# EAGLE library part AMIS30663CAN (library khr_lib4)
https://www.onsemi.com/pub/Collateral/AMIS-30663-D.PDF
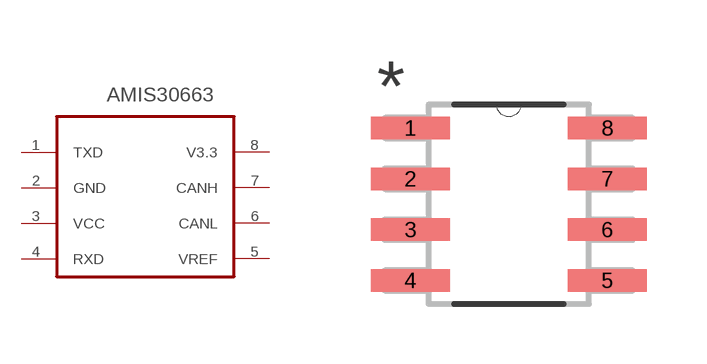
[diagram p0: symbol with the pads of SOIC8; footprint SOIC8]

Designator prefix U

## AMIS30663CAN (MPN: AMIS30663; OC_FARNELL: -; OC_NEWARK: 75C7726; PACKAGE: SOIC-8; SUPPLIER: On Semiconductor)  [SOIC8]
1  TXD
2  GND
3  VCC
4  RXD
5  VREF
6  CANL
7  CANH
8  V3.3

## Footprint SOIC8 (pad centres in mm)
smd 1.981 x 0.559: 1 -0.464,4.405; 2 -0.464,3.135; 3 -0.464,1.865; 4 -0.464,0.595; 5 4.464,0.595; 6 4.464,1.865; 7 4.464,3.135; 8 4.464,4.405